# Altium schematic symbol library MCP73831T-2ACI_OT.SchLib: 1 symbol
Pins are listed as number, name and electrical type; pins without a type are passive.

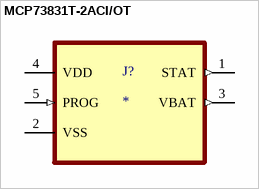
[diagram p0: symbol MCP73831T-2ACI/OT]

## MCP73831T-2ACI/OT
designator J?
Charge Management Controller; MF: {'manufacturer': u'Microchip'}; MP: MCP73831T-2ACI/OT; Package: None; Price: None; Availability: Unavailable; Value: *
footprint SOT95P280X145-5N
pins: 1 STAT (out), 2 VSS (power), 3 VBAT (out), 4 VDD (power), 5 PROG (in)